# EAGLE library part NCP5009 (library ncp5009)
NCP5009 Backlight LED boost driver in MICRO-10 package, by ON semiconductor
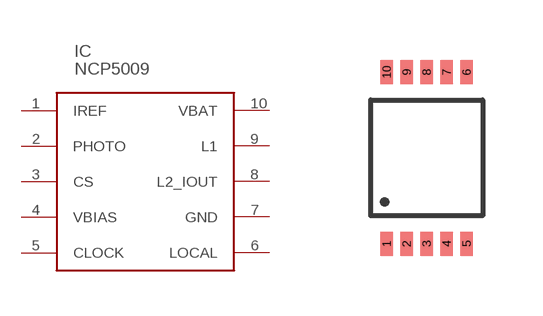
[diagram p0: symbol with the pads of MICRO-10; footprint MICRO-10]

Designator prefix IC

## NCP5009  [MICRO-10]
1  IREF
2  PHOTO
3  CS
4  VBIAS
5  CLOCK
6  LOCAL
7  GND
8  L2_IOUT
9  L1
10  VBAT

## Footprint MICRO-10 (pad centres in mm)
MICRO-10
smd 0.305 x 0.61: 1 0.5,-3.4; 2 1,-3.4; 3 1.5,-3.4; 4 2,-3.4; 5 2.5,-3.4; 6 2.5,0.9; 7 2,0.9; 8 1.5,0.9; 9 1,0.9; 10 0.5,0.9